# EAGLE library part E22-400M22S (library ebyte-radio)
EBYTE E22400M22S radio module Datasheet and info: http://www.ebyte.com/en/product-view-news.aspx?id=436
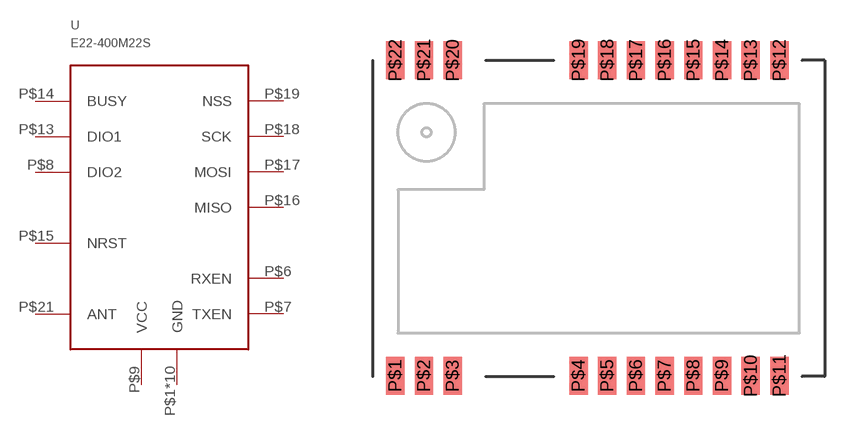
[diagram p0: symbol with the pads of E22-400M22S; footprint E22-400M22S]

Designator prefix -

## E22-400M22S  [E22-400M22S]
P$1  GND  sup
P$2  GND  sup
P$3  GND  sup
P$4  GND  sup
P$5  GND  sup
P$6  RXEN  in
P$7  TXEN  in
P$8  DIO2
P$9  VCC  pwr
P$10  GND  sup
P$11  GND  sup
P$12  GND  sup
P$13  DIO1
P$14  BUSY  out
P$15  NRST  in
P$16  MISO  out
P$17  MOSI  in
P$18  SCK  in
P$19  NSS  in
P$20  GND  sup
P$21  ANT  out
P$22  GND  sup

## Footprint E22-400M22S (pad centres in mm)
EBYTE E22400M22S radio module Datasheet and info: http://www.ebyte.com/en/product-view-news.aspx?id=436
smd 0.813 x 1.676: P$1 -9,-6.97; P$2 -7.73,-6.97; P$3 -6.46,-6.97; P$4 -0.89,-6.97; P$5 0.38,-6.97; P$6 1.65,-6.97; P$7 2.92,-6.97; P$8 4.19,-6.97; P$9 5.46,-6.97; P$10 6.73,-6.97; P$11 8,-6.97; P$12 8,7; P$13 6.73,7; P$14 5.46,7; P$15 4.19,7; P$16 2.92,7; P$17 1.65,7; P$18 0.38,7; P$19 -0.89,7; P$20 -6.46,7; P$21 -7.73,7; P$22 -9,7